# Altium footprint library TO1090P3010X870-4P.PcbLib: 2 footprints
Each footprint in its own frame and in the unit in brackets; x right, y up, seen from the top. Pads: shape width x height; smd on the part's side, far side on the other; paste and mask are expansions set on the pad; w line width, h text height; cw(c..) or ccw(c..) is an arc to the next point about the centre after c.
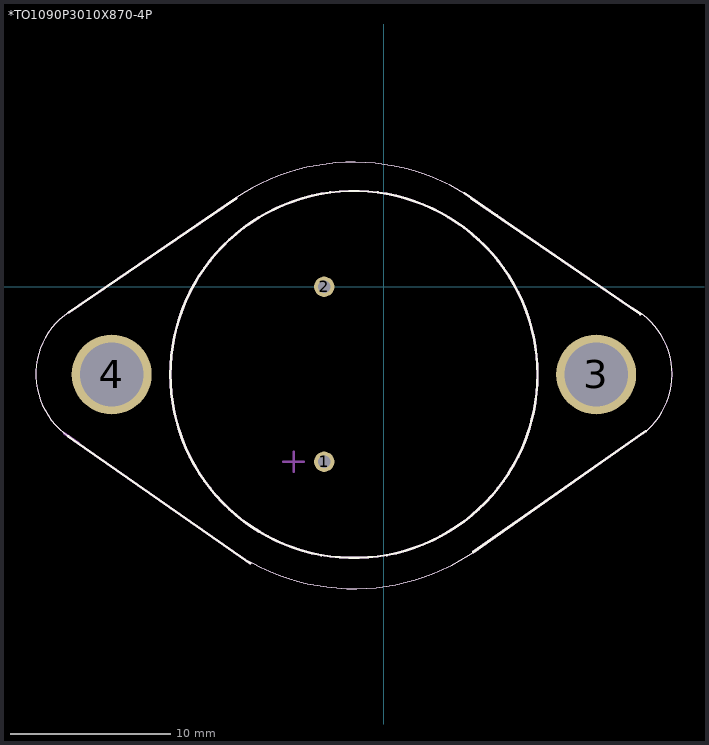
[diagram p0: the footprints below, top view; thin cyan lines are the x and y axes]

## *TO1090P3010X870-4P [mil]
pads (4):
  round 50 hole 30: 1(-146,-429) 2(-146,0)
  round 196 hole 156: 3(521,-215) 4(-667,-215)
Top Overlay:
  lines w0: -771.95,-61.97 ccw(c-669.02,-214.56) -761.05,-373.97 ; -364.63,216.58 cw(c-73.86,-214.5) 224.38,211.44 ; -343.99,-665.01 ccw(c-72.9,-213.83) 229.01,-645 ; 609.31,-51.63 cw(c522.86,-214.22) 707,-214.22 ; 636.23,-359.82 ccw(c522.85,-214.71) 707,-214.71
  lines w6: -774,-367 -327,-678 ; -772,-63 -362,217 ; 197,230 277,175 ; 215,217 629,-67 ; 219,-651 642,-354 ; -523,-215 ccw(c-73,-215) 377,-215 ccw(c-73,-215) -523,-215
Mechanical 4:
  lines w0: -771.95,-61.97 ccw(c-669.02,-214.56) -761.05,-373.97 cw(c-669.02,-214.56) -771.95,-61.97 ; -364.63,216.58 cw(c-73.86,-214.5) 224.38,211.44 ccw(c-73.86,-214.5) -364.63,216.58 ; -343.99,-665.01 ccw(c-72.9,-213.83) 229.01,-645 cw(c-72.9,-213.83) -343.99,-665.01 ; 609.51,-51.73 cw(c522.99,-214.44) 636.44,-359.65 ccw(c522.99,-214.44) 609.51,-51.73
  lines w6: -523,-215 ccw(c-73,-215) 377,-215 ; -523,-215 cw(c-73,-215) 377,-215 ; -523,-215 ccw(c-73,-215) 377,-215 ; -523,-215 cw(c-73,-215) 377,-215 ; -784,-359 -748,-383 -784,-359 ; -774,-367 -327,-678 -774,-367 ; -772,-63 -362,217 -772,-63 ; -246,-429 -196,-429 -246,-429 ; -221,-454 -221,-404 -221,-454 ; 197,230 277,175 197,230 ; 215,217 629,-67 215,217 ; 219,-651 642,-354 219,-651

## PCBComponent_1 [mil]